# Altium footprint library LM3886TF.PcbLib: 1 footprints
Each footprint in its own frame and in the unit in brackets; x right, y up, seen from the top. Pads: shape width x height; smd on the part's side, far side on the other; paste and mask are expansions set on the pad; w line width, h text height; cw(c..) or ccw(c..) is an arc to the next point about the centre after c.
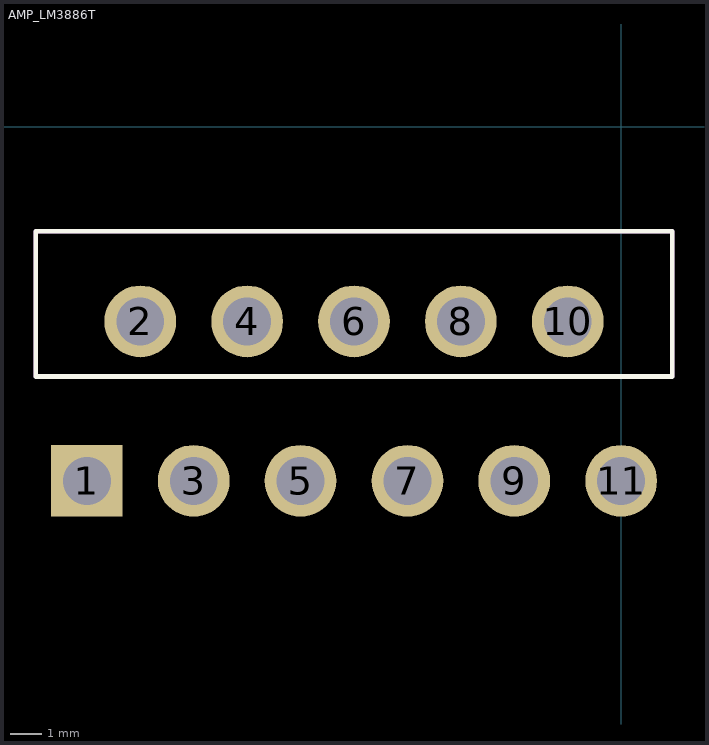
[diagram p0: the footprint, top view; thin cyan lines are the x and y axes]

## AMP_LM3886T [mil]
pads (11):
  rect 90x90 hole 60: 1(-670,-444)
  round 90 hole 60: 2(-603,-244) 3(-536,-444) 4(-469,-244) 5(-402,-444) 6(-335,-244) 7(-268,-444) 8(-201,-244) 9(-134,-444) 10(-67,-244) 11(0,-444)
Top Overlay:
  lines w6: -734,-313 -734,-131 64,-131 64,-313 -734,-313
Mechanical 1:
  lines w6: -734,-313 -734,-131 64,-131 64,-313 -734,-313